# Altium schematic symbol library 5019400407.Schlib: 1 symbol
Pins are listed as number, name and electrical type; pins without a type are passive.

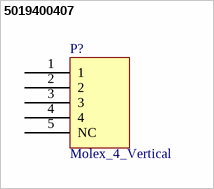
[diagram p0: symbol 5019400407]

## 5019400407
designator P?, comment Molex_4_Vertical
4 Pin Vertical Molex PCB Header
pins: 1, 2, 3, 4, 5 NC